# Altium schematic symbol library Connectors.SchLib: 1 symbol
Pins are listed as number, name and electrical type; pins without a type are passive.

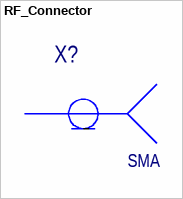
[diagram p0: symbol RF_Connector]

## RF_Connector
designator X?, comment SMA
SMA: Coaxial Right Angle PCB Connector; Part Number: SMA-KWHD; Vender: Амитрон Электроникс; ВП Описание: Розетка_SMA-KWHD; Наименование: Розетка; Value: SMA; ComponentLink1Description: DataSheet; ComponentLink1URL: d:\Projects\Altium_Components_Lib\Component Data Base\Connectors\SMA-KWHD - Амитрон.pdf; StandartDoc: Амитрон Электроникс; System: Connector
pins: 1 SIGNAL, 2 GND hidden to GND, 2 GND, 3 GND hidden to GND, 4 GND hidden to GND, 5 GND hidden to GND